# Altium schematic symbol library PulseBeeper.SchLib: 9 symbols
Pins are listed as number, name and electrical type; pins without a type are passive.

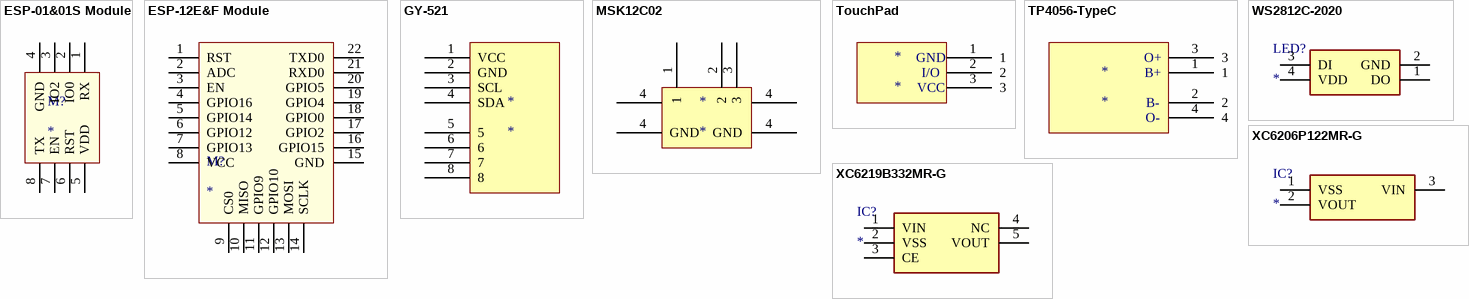
[diagram p0: symbols ESP-01&01S Module to XC6219B332MR-G]

## ESP-01&01S Module
designator M?
footprint ESP-01&01S Module
pins: 1 RX, 2 IO0, 3 IO2, 4 GND, 5 VDD, 6 RST, 7 EN, 8 TX

## ESP-12E&F Module
designator M?
ESP-12E&F Module
footprint ESP-12E&F Module
pins: 1 RST, 2 ADC, 3 EN, 4 GPIO16, 5 GPIO14, 6 GPIO12, 7 GPIO13, 8 VCC, 9 CS0, 10 MISO, 11 GPIO9, 12 GPIO10, 13 MOSI, 14 SCLK, 15 GND, 16 GPIO15, 17 GPIO2, 18 GPIO0, 19 GPIO4, 20 GPIO5, 21 RXD0, 22 TXD0

## GY-521
designator *
pins: 1 VCC, 2 GND, 3 SCL, 4 SDA, 5, 6, 7, 8

## MSK12C02
designator *
pins: 1, 2, 3, 4 GND, 4 GND, 4 GND, 4 GND

## TouchPad
designator *
pins: 1, 2, 3
text: GND; I/O; VCC

## TP4056-TypeC
designator *
pins: 1, 2, 3, 4
text: O+; B+; B-; O-

## WS2812C-2020
designator LED?
LED; Manufacturer_Name: Worldsemi; Manufacturer_Part_Number: WS2812C-2020; Datasheet Link: http://www.world-semi.com/DownLoadFile/139; Height: 0.84mm
footprint WS2812C2020
pins: 1 DO, 2 GND, 3 DI, 4 VDD

## XC6206P122MR-G
designator IC?
Integrated Circuit; Manufacturer_Name: Torex; Manufacturer_Part_Number: XC6206P122MR-G; Datasheet Link: https://www.torexsemi.com/file/xc6206/XC6206.pdf; Height: 1.3mm; Mouser Part Number: 865-XC6206P122MR-G; Mouser Price/Stock: https://www.mouser.co.uk/ProductDetail/Torex-Semiconductor/XC6206P122MR-G?qs=AsjdqWjXhJ%2F35%2FU%2FZk2JYg%3D%3D
footprint SOT95P280X130-3N
pins: 1 VSS, 2 VOUT, 3 VIN

## XC6219B332MR-G
designator IC?
Integrated Circuit; Manufacturer_Name: Torex; Manufacturer_Part_Number: XC6219B332MR-G; Datasheet Link: https://www.torexsemi.com/file/xc6219/XC6219.pdf; Height: 1.3mm; Mouser Part Number: 865-XC6219B332MR-G; Mouser Price/Stock: https://www.mouser.com/Search/Refine.aspx?Keyword=865-XC6219B332MR-G
footprint SOT95P280X130-5N
pins: 1 VIN, 2 VSS, 3 CE, 4 NC, 5 VOUT